# EAGLE library part PH_S10B-PH (library CASE-JST)
JST PH Connector, through hole, 10 pin, side entry Description: JST PH connector with 2.0 mm pitch, through hole version, 10 pin, side entry. Links: Datasheet <http://www.jst-mfg.com/product/pdf/eng/ePH.pdf>
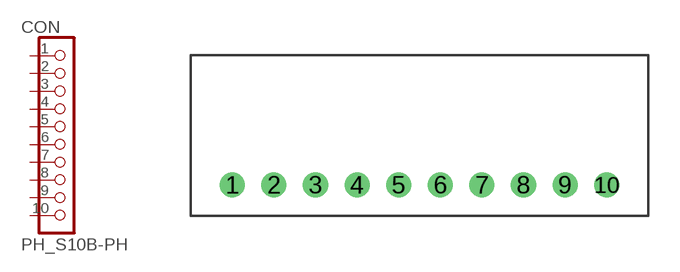
[diagram p25: symbol with the pads of S10B-PH; footprint S10B-PH]

Designator prefix CON

## PH_S10B-PH  [S10B-PH]
1  1  pas
2  2  pas
3  3  pas
4  4  pas
5  5  pas
6  6  pas
7  7  pas
8  8  pas
9  9  pas
10  10  pas

## Footprint S10B-PH (pad centres in mm)
JST S10B-PH Datasheet <http://www.jst-mfg.com/product/pdf/eng/ePH.pdf>
drill 0.7: 1 -9,0; 2 -7,0; 3 -5,0; 4 -3,0; 5 -1,0; 6 1,0; 7 3,0; 8 5,0; 9 7,0; 10 9,0